# Altium footprint library sod123_0.PcbLib: 1 footprints
Each footprint in its own frame and in the unit in brackets; x right, y up, seen from the top. Pads: shape width x height; smd on the part's side, far side on the other; paste and mask are expansions set on the pad; w line width, h text height; cw(c..) or ccw(c..) is an arc to the next point about the centre after c.
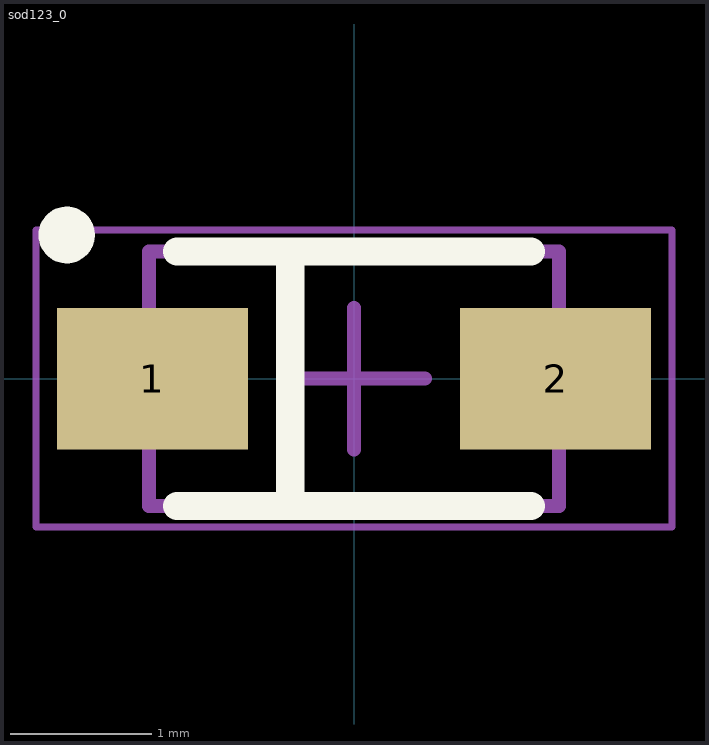
[diagram p0: the footprint, top view; thin cyan lines are the x and y axes]

## sod123_0 [mm] "SOD123, 1.65mm x 2.70mm"
height 98
pads (2):
  rect 1.35x1 smd: 1(-1.425,0) 2(1.425,0)
Top Overlay:
  circle w0.2: c-2.032,1.016 r0.1
  lines w0.2: -1.25,-0.9 1.25,-0.9 ; -1.25,0.9 1.25,0.9 ; -0.45,-0.9 -0.45,0.9
Mechanical 13:
  lines w0.1: -1.45,-0.9 -1.45,0.9 1.45,0.9 1.45,-0.9 -1.45,-0.9
Mechanical 15:
  lines w0.05: -2.25,-1.05 -2.25,1.05 2.25,1.05 2.25,-1.05 -2.25,-1.05
  lines w0.1: -0.5,0 0.5,0 ; 0,-0.5 0,0.5
3D body: height 1, standoff 0, extent -1.45,-0.9 1.45,0.9